# EAGLE library part PCM5102APWR (library edrtech_lib)
2VRMS DirectPath, 112dB Audio Stereo DAC with 32-bit, 384kHz PCM Interface 20-TSSOP -25 to 85 Check availability <https://pricing.snapeda.com/parts/PCM5102APWR/Texas%20Instruments/view-part?ref=eda>
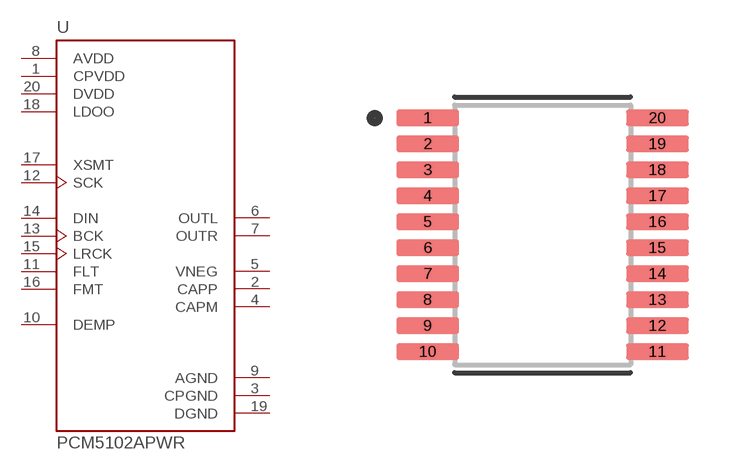
[diagram p16: symbol with the pads of SOP65P640X120-20N; footprint SOP65P640X120-20N]

Designator prefix U

## PCM5102APWR (AVAILABILITY: In Stock; CHECK_PRICES: https://www.snapeda.com/parts/PCM5102APWR/Texas+Instruments/view-part/?ref=eda; DESCRIPTION: 2VRMS DirectPath&trade;, 112dB Audio Stereo DAC with 32-bit, 384kHz PCM Interface; MF: Texas Instruments; MP: PCM5102APWR; PACKAGE: TSSOP-20 Texas Instruments; PRICE: None; PURCHASE-URL: https://www.snapeda.com/api/url_track_click_mouser/?unipart_id=380885&manufacturer=Texas Instruments&part_name=PCM5102APWR&search_term=pcm5102apwr; SNAPEDA_LINK: https://www.snapeda.com/parts/PCM5102APWR/Texas+Instruments/view-part/?ref=snap)  [SOP65P640X120-20N]
1  CPVDD  pwr
2  CAPP  pas
3  CPGND  pwr
4  CAPM  pas
5  VNEG  out
6  OUTL  out
7  OUTR  out
8  AVDD  pwr
9  AGND  pwr
10  DEMP  in
11  FLT  in
12  SCK  in
13  BCK  in
14  DIN  in
15  LRCK  in
16  FMT  in
17  XSMT  in
18  LDOO  pwr
19  DGND  pwr
20  DVDD  pwr

## Footprint SOP65P640X120-20N (pad centres in mm)
smd 1.57 x 0.41: 1 -2.87,2.925; 2 -2.87,2.275; 3 -2.87,1.625; 4 -2.87,0.975; 5 -2.87,0.325; 6 -2.87,-0.325; 7 -2.87,-0.975; 8 -2.87,-1.625; 9 -2.87,-2.275; 10 -2.87,-2.925; 11 2.87,-2.925; 12 2.87,-2.275; 13 2.87,-1.625; 14 2.87,-0.975; 15 2.87,-0.325; 16 2.87,0.325; 17 2.87,0.975; 18 2.87,1.625; 19 2.87,2.275; 20 2.87,2.925